# Altium footprint library DXPpcb.PCBLIB: 575 footprints (part 30 of 36)
Each footprint in its own frame and in the unit in brackets; x right, y up, seen from the top. Pads: shape width x height; smd on the part's side, far side on the other; paste and mask are expansions set on the pad; w line width, h text height; cw(c..) or ccw(c..) is an arc to the next point about the centre after c.
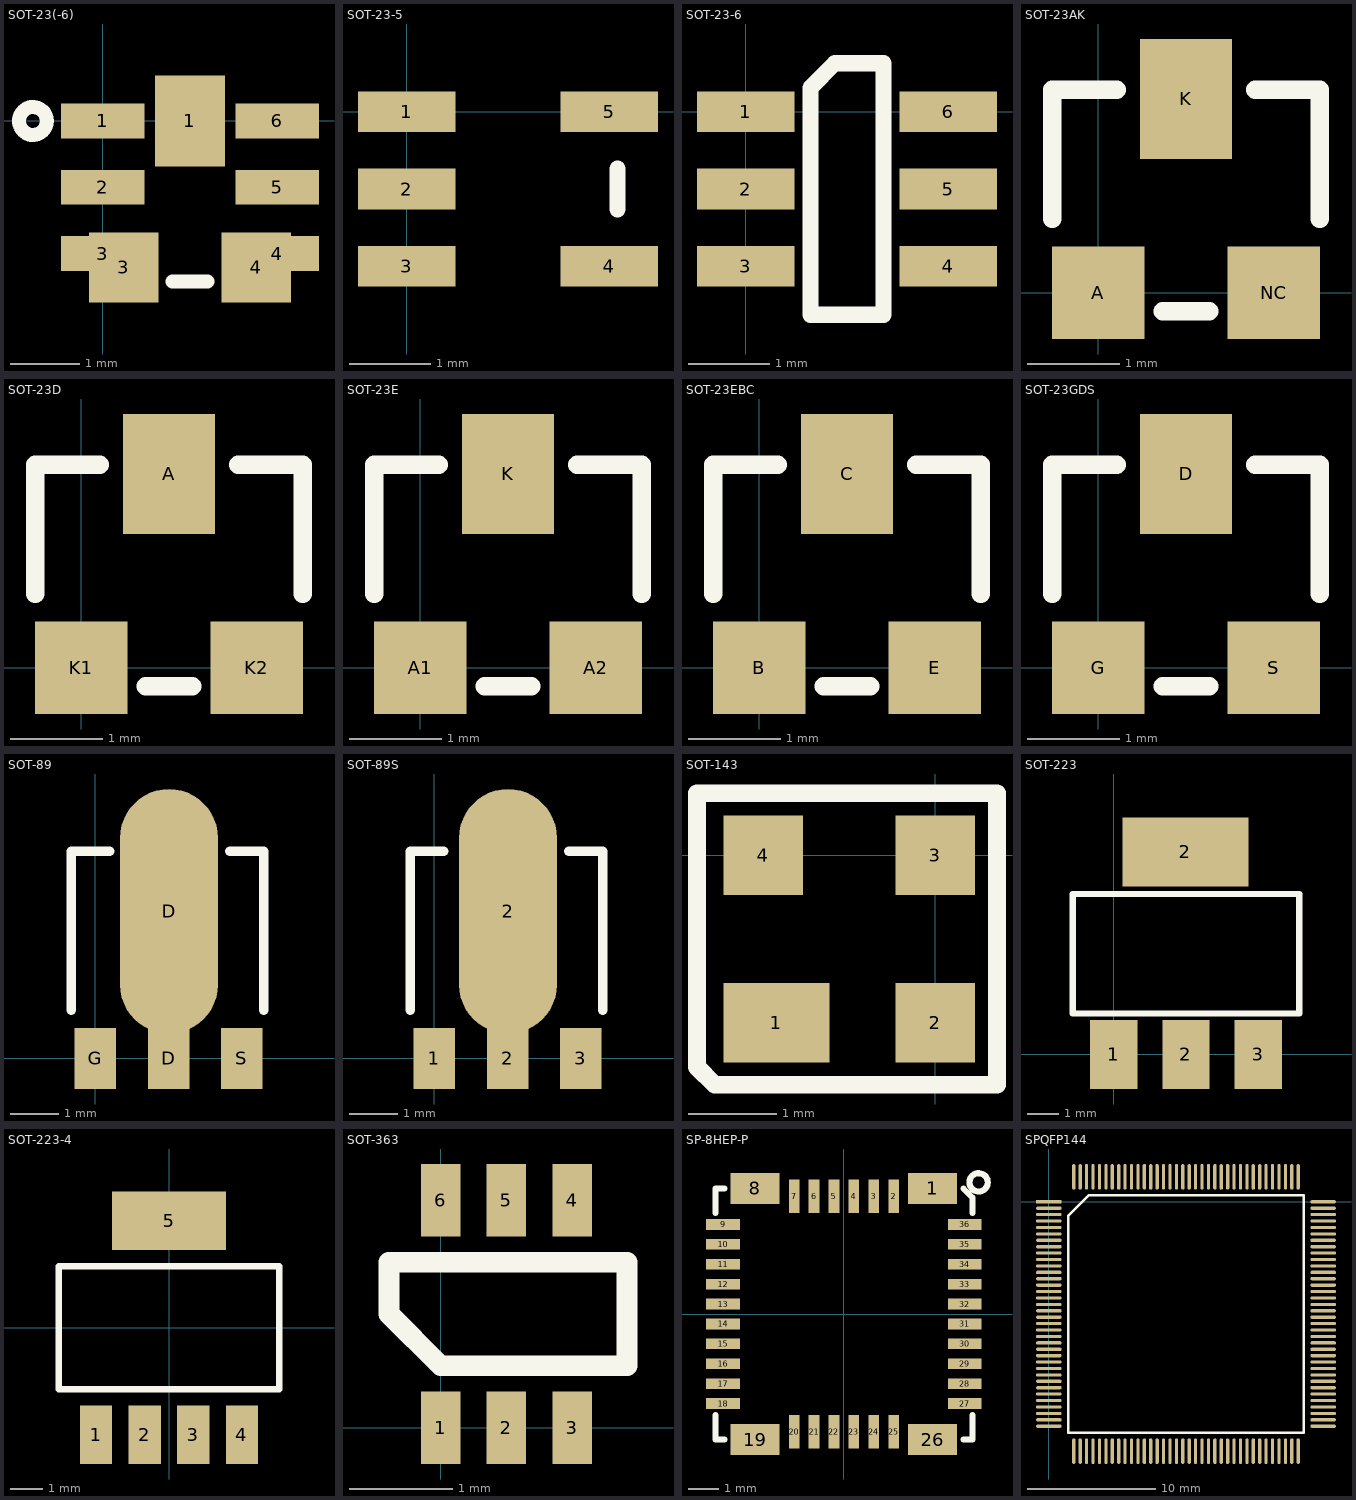
[diagram p29: the footprints below, top view; thin cyan lines are the x and y axes]

## SOT-23(-6) [mm]
pads (9):
  rect 1.2x0.5 smd: 1(0,0) 2(0,-0.95) 3(0,-1.9) 4(2.5,-1.9) 5(2.5,-0.95) 6(2.5,0)
  rect 1x1.3 smd: 1(1.25,0)
  rect 1x1 smd: 3(0.3,-2.1) 4(2.2,-2.1)
TopOverlay:
  circle w0.2: c-1,0 r0.2
  lines w0.2: 1,-2.3 1.5,-2.3

## SOT-23-5 [mm]
pads (5):
  rect 1.2x0.5 smd: 1(0,0) 2(0,-0.95) 3(0,-1.9) 4(2.5,-1.9) 5(2.5,0)
TopOverlay:
  lines w0.2: 2.6,-1.2 2.6,-0.7

## SOT-23-6 [mm]
pads (6):
  rect 1.2x0.5 smd: 1(0,0) 2(0,-0.95) 3(0,-1.9) 4(2.5,-1.9) 5(2.5,-0.95) 6(2.5,0)
TopOverlay:
  lines w0.2: 0.8,-2.5 0.8,0.3 1.1,0.6 1.7,0.6 1.7,-2.5 0.8,-2.5

## SOT-23AK [mm]
pads (3):
  rect 1x1 smd: A(0,0) NC(1.9,0)
  rect 1x1.3 smd: K(0.95,2.1)
TopOverlay:
  lines w0.2: -0.5,0.8 -0.5,2.2 0.2,2.2 ; 0.7,-0.2 1.2,-0.2 ; 1.7,2.2 2.4,2.2 2.4,0.8

## SOT-23D [mm]
pads (3):
  rect 1x1.3 smd: A(0.95,2.1)
  rect 1x1 smd: K1(0,0) K2(1.9,0)
TopOverlay:
  lines w0.2: -0.5,0.8 -0.5,2.2 0.2,2.2 ; 0.7,-0.2 1.2,-0.2 ; 1.7,2.2 2.4,2.2 2.4,0.8

## SOT-23E [mm]
pads (3):
  rect 1x1 smd: A1(0,0) A2(1.9,0)
  rect 1x1.3 smd: K(0.95,2.1)
TopOverlay:
  lines w0.2: -0.5,0.8 -0.5,2.2 0.2,2.2 ; 0.7,-0.2 1.2,-0.2 ; 1.7,2.2 2.4,2.2 2.4,0.8

## SOT-23EBC [mm]
pads (3):
  rect 1x1 smd: B(0,0) E(1.9,0)
  rect 1x1.3 smd: C(0.95,2.1)
TopOverlay:
  lines w0.2: -0.5,0.8 -0.5,2.2 0.2,2.2 ; 0.7,-0.2 1.2,-0.2 ; 1.7,2.2 2.4,2.2 2.4,0.8

## SOT-23GDS [mm]
pads (3):
  rect 1x1.3 smd: D(0.95,2.1)
  rect 1x1 smd: G(0,0) S(1.9,0)
TopOverlay:
  lines w0.2: -0.5,0.8 -0.5,2.2 0.2,2.2 ; 0.7,-0.2 1.2,-0.2 ; 1.7,2.2 2.4,2.2 2.4,0.8

## SOT-89 [mil]
pads (4):
  rect 34x50 smd: D(60,0) G(0,0) S(120,0)
  oval 80x200 smd: D(60.37,120.3)
TopOverlay:
  lines w7.87: -19.68,39.37 -19.68,169.29 11.81,169.29 ; 110.24,169.29 137.8,169.29 137.8,39.37

## SOT-89S [mil]
pads (4):
  rect 34x50 smd: 1(0,0) 2(60,0) 3(120,0)
  oval 80x200 smd: 2(60.37,120.3)
TopOverlay:
  lines w7.87: -19.68,39.37 -19.68,169.29 7.87,169.29 ; 110.24,169.29 137.8,169.29 137.8,39.37

## SOT-143 [mm]
pads (4):
  rect 1.2x0.9 smd: 1(-1.8,-1.9)
  rect 0.9x0.9 smd: 2(0,-1.9) 3(0,0) 4(-1.95,0)
TopOverlay:
  lines w0.2: -2.7,-2.4 -2.7,0.7 0.7,0.7 0.7,-2.6 -2.5,-2.6 -2.7,-2.4

## SOT-223 [mm]
pads (4):
  rect 1.5x2.2 smd: 1(0,0) 2(2.3,0) 3(4.6,0)
  rect 4x2.2 smd: 2(2.283,6.44)
TopOverlay:
  lines w0.2: -1.3,1.3 -1.3,5.1 5.9,5.1 5.9,1.3 -1.3,1.3

## SOT-223-4 [mm]
pads (5):
  rect 1x1.8 smd: 1(-2.25,-3.3) 2(-0.75,-3.3) 3(0.75,-3.3) 4(2.25,-3.3)
  rect 3.5x1.8 smd: 5(0,3.3)
TopOverlay:
  lines w0.2: -3.4,-1.9 -3.4,1.9 3.4,1.9 3.4,-1.9 -3.4,-1.9

## SOT-363 [mm]
pads (6):
  rect 0.381x0.7 smd: 1(0,0) 2(0.635,0) 3(1.27,0) 4(1.27,2.2) 5(0.635,2.2) 6(0,2.2)
TopOverlay:
  lines w0.2: -0.5,1.1 -0.5,1.6 1.8,1.6 1.8,0.6 0,0.6 -0.5,1.1

## SP-8HEP-P [mm]
pads (36):
  rect 1.6x1 smd: 1(2.9,4.1) 8(-2.9,4.1) 19(-2.9,-4.1) 26(2.9,-4.1)
  rect 0.35x1.1 smd: 2(1.625,3.85) 3(0.975,3.85) 4(0.325,3.85) 5(-0.325,3.85) 6(-0.975,3.85) 7(-1.625,3.85) 20(-1.625,-3.85) 21(-0.975,-3.85) 22(-0.325,-3.85) 23(0.325,-3.85) 24(0.975,-3.85) 25(1.625,-3.85)
  rect 1.1x0.35 smd: 9(-3.95,2.925) 10(-3.95,2.275) 11(-3.95,1.625) 12(-3.95,0.975) 13(-3.95,0.325) 14(-3.95,-0.325) 15(-3.95,-0.975) 16(-3.95,-1.625) 17(-3.95,-2.275) 18(-3.95,-2.925) 27(3.95,-2.925) 28(3.95,-2.275) 29(3.95,-1.625) 30(3.95,-0.975) 31(3.95,-0.325) 32(3.95,0.325) 33(3.95,0.975) 34(3.95,1.625) 35(3.95,2.275) 36(3.95,2.925)
TopOverlay:
  circle w0.2: c4.4,4.3 r0.3
  lines w0.2: -4.2,-3.3 -4.2,-4.1 -3.9,-4.1 ; -4.2,3.3 -4.2,4.1 -3.9,4.1 ; 3.9,-4.1 4.2,-4.1 4.2,-3.3 ; 3.9,4.1 4.2,3.8 4.2,3.3

## SPQFP144 [mm]
pads (144):
  rect 2x0.25 smd: 1(0,0)
  oval 2x0.25 smd: 2(0,-0.5) 3(0,-1) 4(0,-1.5) 5(0,-2) 6(0,-2.5) 7(0,-3) 8(0,-3.5) 9(0,-4) 10(0,-4.5) 11(0,-5) 12(0,-5.5) 13(0,-6) 14(0,-6.5) 15(0,-7) 16(0,-7.5) 17(0,-8) 18(0,-8.5) 19(0,-9) 20(0,-9.5) 21(0,-10) 22(0,-10.5) 23(0,-11) 24(0,-11.5) 25(0,-12) 26(0,-12.5) 27(0,-13) 28(0,-13.5) 29(0,-14) 30(0,-14.5) 31(0,-15) 32(0,-15.5) 33(0,-16) 34(0,-16.5) 35(0,-17) 36(0,-17.5) 73(21.4,-17.5) 74(21.4,-17) 75(21.4,-16.5) 76(21.4,-16) 77(21.4,-15.5) 78(21.4,-15) 79(21.4,-14.5) 80(21.4,-14) 81(21.4,-13.5) 82(21.4,-13) 83(21.4,-12.5) 84(21.4,-12) 85(21.4,-11.5) 86(21.4,-11) 87(21.4,-10.5) 88(21.4,-10) 89(21.4,-9.5) 90(21.4,-9) 91(21.4,-8.5) 92(21.4,-8) 93(21.4,-7.5) 94(21.4,-7) 95(21.4,-6.5) 96(21.4,-6) 97(21.4,-5.5) 98(21.4,-5) 99(21.4,-4.5) 100(21.4,-4) 101(21.4,-3.5) 102(21.4,-3) 103(21.4,-2.5) 104(21.4,-2) 105(21.4,-1.5) 106(21.4,-1) 107(21.4,-0.5) 108(21.4,0)
  oval 0.25x2 smd: 37(1.95,-19.45) 38(2.45,-19.45) 39(2.95,-19.45) 40(3.45,-19.45) 41(3.95,-19.45) 42(4.45,-19.45) 43(4.95,-19.45) 44(5.45,-19.45) 45(5.95,-19.45) 46(6.45,-19.45) 47(6.95,-19.45) 48(7.45,-19.45) 49(7.95,-19.45) 50(8.45,-19.45) 51(8.95,-19.45) 52(9.45,-19.45) 53(9.95,-19.45) 54(10.45,-19.45) 55(10.95,-19.45) 56(11.45,-19.45) 57(11.95,-19.45) 58(12.45,-19.45) 59(12.95,-19.45) 60(13.45,-19.45) 61(13.95,-19.45) 62(14.45,-19.45) 63(14.95,-19.45) 64(15.45,-19.45) 65(15.95,-19.45) 66(16.45,-19.45) 67(16.95,-19.45) 68(17.45,-19.45) 69(17.95,-19.45) 70(18.45,-19.45) 71(18.95,-19.45) 72(19.45,-19.45) 109(19.45,1.95) 110(18.95,1.95) 111(18.45,1.95) 112(17.95,1.95) 113(17.45,1.95) 114(16.95,1.95) 115(16.45,1.95) 116(15.95,1.95) 117(15.45,1.95) 118(14.95,1.95) 119(14.45,1.95) 120(13.95,1.95) 121(13.45,1.95) 122(12.95,1.95) 123(12.45,1.95) 124(11.95,1.95) 125(11.45,1.95) 126(10.95,1.95) 127(10.45,1.95) 128(9.95,1.95) 129(9.45,1.95) 130(8.95,1.95) 131(8.45,1.95) 132(7.95,1.95) 133(7.45,1.95) 134(6.95,1.95) 135(6.45,1.95) 136(5.95,1.95) 137(5.45,1.95) 138(4.95,1.95) 139(4.45,1.95) 140(3.95,1.95) 141(3.45,1.95) 142(2.95,1.95) 143(2.45,1.95) 144(1.95,1.95)
TopOverlay:
  lines w0.2: 1.5,-18 19.9,-18 19.9,0.5 3.1,0.5 1.5,-1.1 1.5,-18